# Altium schematic symbol library TCM2-63WX&plus_.SchLib: 2 symbols
Pins are listed as number, name and electrical type; pins without a type are passive.

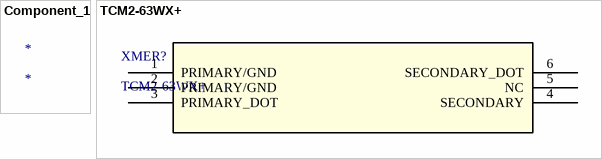
[diagram p0: symbols Component_1 to TCM2-63WX+]

## Component_1
designator *

## TCM2-63WX+
designator XMER?
No Description Available; Mfr_Name: Mini Circuits; Copyright: Copyright (C) 2022 Ultra Librarian. All rights reserved.; Manufacturer_Part_Number: TCM2-63WX+; RefDes: RefDes; Type: DEV
footprint DB1627_MNC
pins: 1 PRIMARY/GND, 2 PRIMARY/GND, 3 PRIMARY_DOT, 4 SECONDARY, 5 NC, 6 SECONDARY_DOT